# Altium integrated library VGA_CON.IntLib: 1 symbol
Pins are listed as number, name and electrical type; pins without a type are passive.

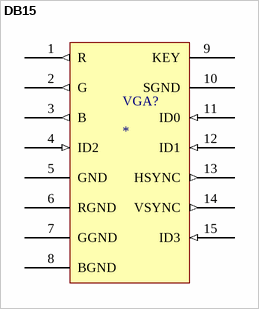
[diagram p0: symbol DB15]

## DB15
designator VGA?
DB15 VGA Male Connector
footprint DB15_DSUB
pins: 1 R (out), 2 G (out), 3 B (out), 4 ID2 (in), 5 GND, 6 RGND, 7 GGND, 8 BGND, 9 KEY, 10 SGND, 11 ID0 (in), 12 ID1 (in), 13 HSYNC (out), 14 VSYNC (out), 15 ID3 (in)